# Altium footprint library JLCPCB_CAP_SMD_MLCC.PcbLib: 5 footprints
Each footprint in its own frame and in the unit in brackets; x right, y up, seen from the top. Pads: shape width x height; smd on the part's side, far side on the other; paste and mask are expansions set on the pad; w line width, h text height; cw(c..) or ccw(c..) is an arc to the next point about the centre after c.
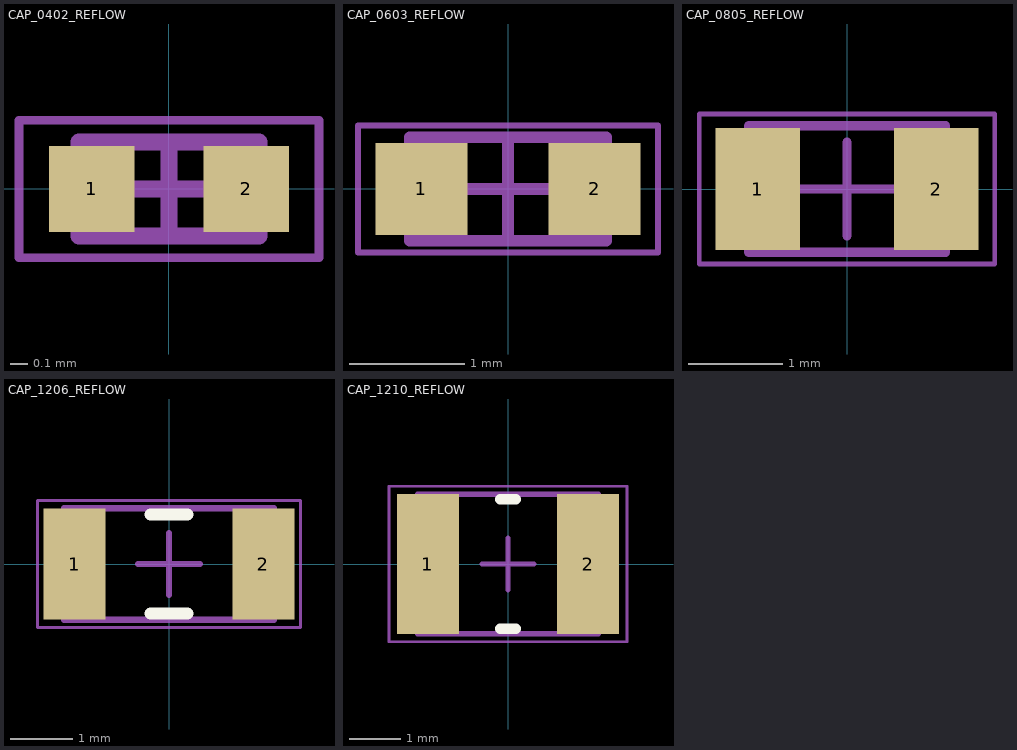
[diagram p0: the footprints below, top view; thin cyan lines are the x and y axes]

## CAP_0402_REFLOW [mm] "Chip Capacitor, 2-Leads, Body 1,00x0,50mm, IPC Medium Density"
height 0.55
pads (2):
  rect 0.5x0.5 smd mask+0.055: 1(-0.45,0) 2(0.45,0)
Mechanical 13:
  lines w0.1: -0.525,-0.275 -0.525,0.275 0.525,0.275 0.525,-0.275 -0.525,-0.275
Mechanical 15:
  lines w0.05: -0.875,-0.4 -0.875,0.4 0.875,0.4 0.875,-0.4 -0.875,-0.4
  lines w0.1: -0.275,0 0.275,0 ; 0,-0.275 0,0.275
3D body "CAP_0402_REFLOW.step": height 0.55, standoff 0, extent -0.525,-0.275 0.525,0.275

## CAP_0603_REFLOW [mm] "Chip Capacitor, 2-Leads, Body 1,60x0,80mm, IPC Medium Density"
height 0.8
pads (2):
  rect 0.8x0.8 smd mask+0.055: 1(-0.75,0) 2(0.75,0)
Mechanical 13:
  lines w0.1: -0.85,-0.45 -0.85,0.45 0.85,0.45 0.85,-0.45 -0.85,-0.45
Mechanical 15:
  lines w0.05: -1.3,-0.55 -1.3,0.55 1.3,0.55 1.3,-0.55 -1.3,-0.55
  lines w0.1: -0.45,0 0.45,0 ; 0,-0.45 0,0.45
3D body "CAP_0603_REFLOW.step": height 0.8, standoff 0, extent -0.85,-0.45 0.85,0.45

## CAP_0805_REFLOW [mm] "Chip Capacitor, 2-Leads, Body 2,00x1,25mm, IPC Medium Density"
height 1.45
pads (2):
  rect 0.9x1.3 smd mask+0.055: 1(-0.95,0) 2(0.95,0)
Mechanical 13:
  lines w0.1: -1.05,-0.675 1.05,-0.675 1.05,0.675 -1.05,0.675 -1.05,-0.675
Mechanical 15:
  lines w0.05: -1.575,-0.8 1.575,-0.8 1.575,0.8 -1.575,0.8 -1.575,-0.8
  lines w0.1: -0.5,0 0.5,0 ; 0,-0.5 0,0.5
3D body "CAP_0805_REFLOW.step": height 1.45, standoff 0, extent -1.05,-0.675 1.05,0.675

## CAP_1206_REFLOW [mm] "Chip Capacitor, 2-Leads, Body 3,20x1,60mm, IPC Medium Density"
height 1.8
pads (2):
  rect 1x1.8 smd mask+0.055: 1(-1.525,0) 2(1.525,0)
Top Overlay:
  lines w0.2: -0.3,-0.8 0.3,-0.8 ; -0.3,0.8 0.3,0.8
Mechanical 13:
  lines w0.1: -1.7,-0.9 -1.7,0.9 1.7,0.9 1.7,-0.9 -1.7,-0.9
Mechanical 15:
  lines w0.05: -2.125,-1.025 -2.125,1.025 2.125,1.025 2.125,-1.025 -2.125,-1.025
  lines w0.1: -0.5,0 0.5,0 ; 0,-0.5 0,0.5
3D body "CAP_1206_REFLOW.step": height 1.8, standoff 0, extent -1.7,-0.9 1.7,0.9

## CAP_1210_REFLOW [mm] "Chip Capacitor, 2-Leads, Body 3,20x2,50mm, IPC Medium Density"
height 2.7
pads (2):
  rect 1.2x2.7 smd mask+0.055: 1(-1.55,0) 2(1.55,0)
Top Overlay:
  lines w0.2: -0.15,-1.25 0.15,-1.25 ; -0.15,1.25 0.15,1.25
Mechanical 13:
  lines w0.1: -1.75,-1.35 1.75,-1.35 1.75,1.35 -1.75,1.35 -1.75,-1.35
Mechanical 15:
  lines w0.05: -2.3,-1.5 2.3,-1.5 2.3,1.5 -2.3,1.5 -2.3,-1.5
  lines w0.1: -0.5,0 0.5,0 ; 0,-0.5 0,0.5
3D body "CAP_1210_REFLOW.step": height 2.7, standoff 0, extent -1.75,-1.35 1.75,1.35